# Altium footprint library Ad-Flier_Footprints.PcbLib: 38 footprints (part 3 of 3)
Each footprint in its own frame and in the unit in brackets; x right, y up, seen from the top. Pads: shape width x height; smd on the part's side, far side on the other; paste and mask are expansions set on the pad; w line width, h text height; cw(c..) or ccw(c..) is an arc to the next point about the centre after c.
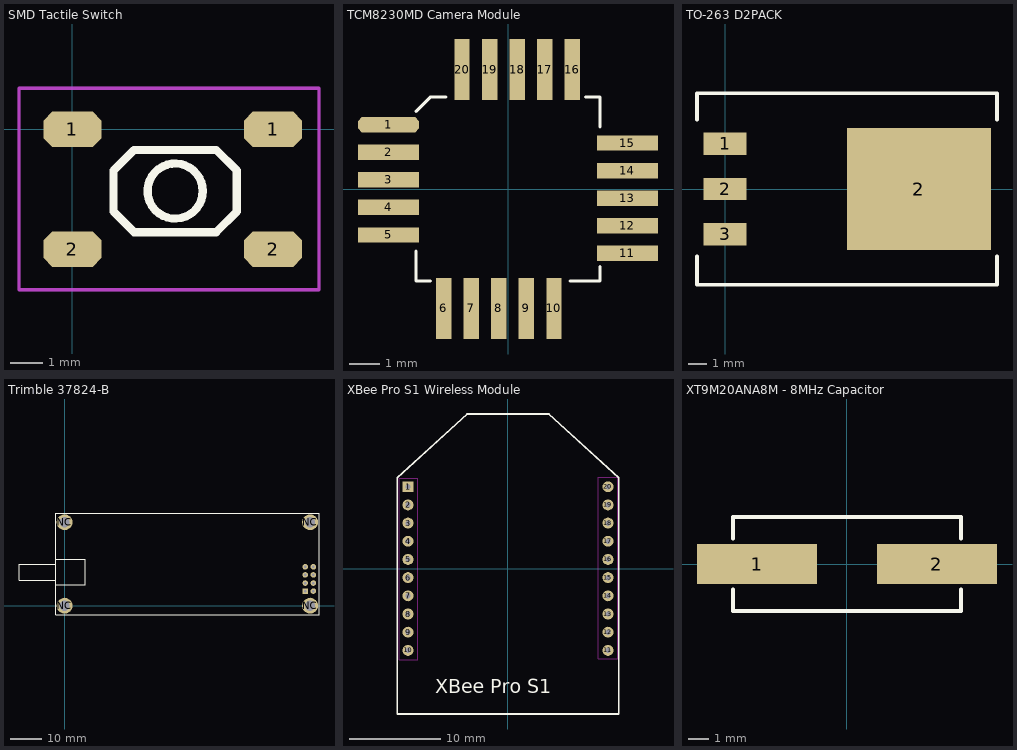
[diagram p2: the footprints below, top view; thin cyan lines are the x and y axes]

## SMD Tactile Switch [mm]
pads (4):
  oct 1.8x1.1 smd: 1(0,0) 1(6.2,0) 2(0,-3.7) 2(6.2,-3.7)
Top Overlay:
  circle w0.254: c3.175,-1.905 r0.852
  lines w0.254: 1.27,-2.54 1.905,-3.175 4.445,-3.175 5.08,-2.54 5.08,-1.27 4.445,-0.635 1.905,-0.635 1.27,-1.27 1.27,-2.54
Mechanical 1 keep-out:
  lines w0.1: -1.651,-4.953 -1.651,1.27 7.62,1.27 7.62,-4.953 -1.651,-4.953

## TCM8230MD Camera Module [mm]
pads (20):
  oct 2x0.5 smd: 1(-3.9,2.1)
  rect 2x0.5 smd: 2(-3.9,1.2) 3(-3.9,0.3) 4(-3.9,-0.6) 5(-3.9,-1.5) 11(3.9,-2.1) 12(3.9,-1.2) 13(3.9,-0.3) 14(3.9,0.6) 15(3.9,1.5)
  rect 0.5x2 smd: 6(-2.1,-3.9) 7(-1.2,-3.9) 8(-0.3,-3.9) 9(0.6,-3.9) 10(1.5,-3.9) 16(2.1,3.9) 17(1.2,3.9) 18(0.3,3.9) 19(-0.6,3.9) 20(-1.5,3.9)
Top Overlay:
  lines w0.1: -3,-2.032 -3,-3 -2.54,-3 ; -3,2.54 -2.54,3 -2.032,3 ; 2.032,-3 3,-3 3,-2.54 ; 2.54,3 3,3 3,2.032

## TO-263 D2PACK [mm]
pads (4):
  rect 2.3x1.19 smd: 1(0,2.413) 2(0,0) 3(0,-2.413)
  rect 7.696x6.502 smd: 2(10.338,0)
Top Overlay:
  lines w0.2: -1.5,-3.6 -1.5,-5.1 14.5,-5.1 14.5,-3.6 ; -1.5,3.7 -1.5,5.1 14.5,5.1 14.5,3.7

## Trimble 37824-B [mm]
pads (12):
  rect 1.75x1.75 hole 0.8: 1(75.44,4.57)
  round 1.75 hole 0.8: 2(77.98,4.57) 3(75.44,7.11) 4(77.98,7.11) 5(75.44,9.65) 6(77.98,9.65) 7(75.44,12.19) 8(77.98,12.19)
  round 5 hole 3.175: NC(0,0) NC(0,26.16) NC(76.962,0) NC(76.962,26.16)
Top Overlay:
  lines w0.2: -2.79,-2.8 -2.79,28.95 79.76,28.95 79.76,-2.8 -2.79,-2.8
  lines w0.254: -2.79,8.04 -14.29,8.04 -14.29,13.04 -2.79,13.04 ; -2.79,6.54 6.54,6.54 6.54,14.54 -2.79,14.54 -2.79,6.54
3D body: height 11.12, standoff 4, extent -2.667,-2.669 79.629,28.827

## XBee Pro S1 Wireless Module [mm]
pads (20):
  rect 1.2x1.2 hole 0.6: 1(-11,9)
  round 1.2 hole 0.6: 2(-11,7) 3(-11,5) 4(-11,3) 5(-11,1) 6(-11,-1) 7(-11,-3) 8(-11,-5) 9(-11,-7) 10(-11,-9) 11(11,-9) 12(11,-7) 13(11,-5) 14(11,-3) 15(11,-1) 16(11,1) 17(11,3) 18(11,5) 19(11,7) 20(11,9)
Top Layer keep-out:
  lines w0.1: -11.938,-10.033 -9.906,-10.033 -9.906,9.906 -11.938,9.906 -11.938,-10.033 ; 9.906,-9.906 12.065,-9.906 12.065,10.033 9.906,10.033 9.906,-9.906
Top Overlay:
  lines w0.2: -12.19,-16 -12.19,10 -4.5,17 4.5,17 12.19,10 12.19,-16 -12.19,-16
  text "XBee Pro S1" at -8.001,-13.716 h1.52

## XT9M20ANA8M - 8MHz Capacitor [mm]
pads (2):
  rect 6x2 smd: 1(-4.5,0) 2(4.5,0)
Top Overlay:
  lines w0.2: -5.7,-1.27 -5.7,-2.35 5.7,-2.35 5.7,-1.27 ; -5.7,1.27 -5.7,2.35 5.7,2.35 5.7,1.27